# Altium schematic symbol library AMS1117-3.3.SCHLIB: 1 symbol
Pins are listed as number, name and electrical type; pins without a type are passive.

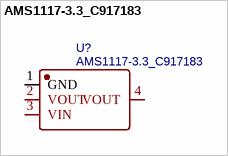
[diagram p0: symbol AMS1117-3.3_C917183]

## AMS1117-3.3_C917183
designator U?
Manufacturer: JSMSEMI(杰盛微); Contributor: LCSC; Supplier: LCSC; Supplier Part: C917183; Manufacturer Part: AMS1117-3.3; JLCPCB Part Class: Extended Part; spicePre: U; spiceSymbolName: AMS1117-3.3_C917183
footprint SOT-223-3_L6.7-W3.7-P2.30-LS7.0-BR
pins: 1 GND, 2 VOUT, 3 VIN, 4 VOUT